# Altium schematic symbol library SCH - CONNECTORS - SAMTEC - PHF-104-01-S-S.SCHLIB: 1 symbol
Pins are listed as number, name and electrical type; pins without a type are passive.

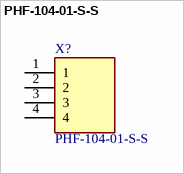
[diagram p0: symbol PHF-104-01-S-S]

## PHF-104-01-S-S
designator X?
Connector; Manufacturer_Name: SAMTEC; Datasheet Link: https://www.mouser.com/datasheet/2/527/phf-1370209.pdf; Height: 8.5mm; Manufacturer_Part_Number: PHF-104-01-S-S; Mouser Part Number: 200-PHF10401SS; Mouser Price/Stock: https://www.mouser.com/Search/Refine.aspx?Keyword=200-PHF10401SS
pins: 1, 2, 3, 4